# EAGLE library part R-ARRAY-4X (library p.peter-rcl)
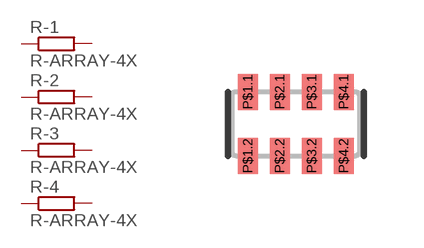
[diagram p0: symbol with the pads of R-ARRAY-4X-CTS-0603; footprint R-ARRAY-4X-CTS-0603]

Designator prefix R; gates -1=R-EU -2=R-EU -3=R-EU -4=R-EU

## R-ARRAY-4X0603  [R-ARRAY-4X-CTS-0603]
P$1.1  -1:1  pas
P$1.2  -1:2  pas
P$2.1  -2:1  pas
P$2.2  -2:2  pas
P$3.1  -3:1  pas
P$3.2  -3:2  pas
P$4.1  -4:1  pas
P$4.2  -4:2  pas

## Footprint R-ARRAY-4X-CTS-0603 (pad centres in mm)
CTS Components 742C083 Series
smd 0.5 x 0.9: P$1.1 -1.2,0.8; P$1.2 -1.2,-0.8; P$2.1 -0.4,0.8; P$2.2 -0.4,-0.8; P$3.1 0.4,0.8; P$3.2 0.4,-0.8; P$4.1 1.2,0.8; P$4.2 1.2,-0.8